# EAGLE library part RF-SHIELD:20-PINS-TO-AGND (library QuantumOptics)
RF Shield, 27 x 27 x 5mm, Laird Tech BMI-S-203-F, SMT, http://media.digikey.com/pdf/Data%20Sheets/Laird%20Technologies/BMI-S-203.pdf
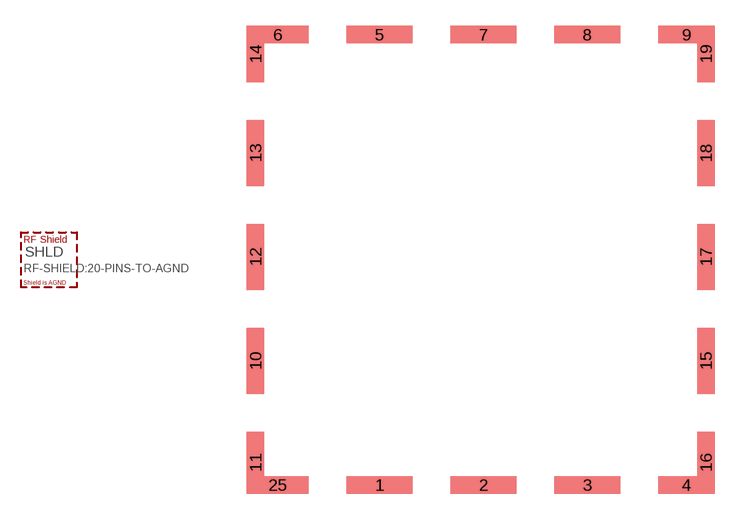
[diagram p141: symbol with the pads of RF-SHIELD:27X27MM(BMI-S-203); footprint RF-SHIELD:27X27MM(BMI-S-203)]

Designator prefix SHLD

## RF-SHIELD:20-PINS-TO-AGND  [RF-SHIELD:27X27MM(BMI-S-203)]
1  AGND  pwr
2  AGND  pwr
3  AGND  pwr
4  AGND  pwr
5  AGND  pwr
6  AGND  pwr
7  AGND  pwr
8  AGND  pwr
9  AGND  pwr
10  AGND  pwr
11  AGND  pwr
12  AGND  pwr
13  AGND  pwr
14  AGND  pwr
15  AGND  pwr
16  AGND  pwr
17  AGND  pwr
18  AGND  pwr
19  AGND  pwr
25  AGND  pwr

## Footprint RF-SHIELD:27X27MM(BMI-S-203) (pad centres in mm)
RF Shield, 27 x 27 x 5mm, Laird Tech BMI-S-203-F, SMT, http://media.digikey.com/pdf/Data%20Sheets/Laird%20Technologies/BMI-S-203.pdf
smd 3.8 x 1: 1 -5.835,-13.005; 2 0.165,-13.005; 3 6.165,-13.005; 5 -5.835,13.005; 7 0.165,13.005; 8 6.165,13.005
smd 3.24 x 1: 4 11.885,-13.005; 9 11.885,13.005
smd 3.57 x 1: 6 -11.72,13.005; 25 -11.72,-13.005
smd 1 x 3.8: 10 -13.005,-5.835; 12 -13.005,0.165; 13 -13.005,6.165; 15 13.005,-5.835; 17 13.005,0.165; 18 13.005,6.165
smd 1 x 3.57: 11 -13.005,-11.72; 16 13.005,-11.72
smd 1 x 3.24: 14 -13.005,11.885; 19 13.005,11.885